# EAGLE library part RJSSE5380 (library 2000dB)
RJSSE5380: http://www.amphenolcanada.com/ProductSearch/drawings/AC/RJSS5080.pdf
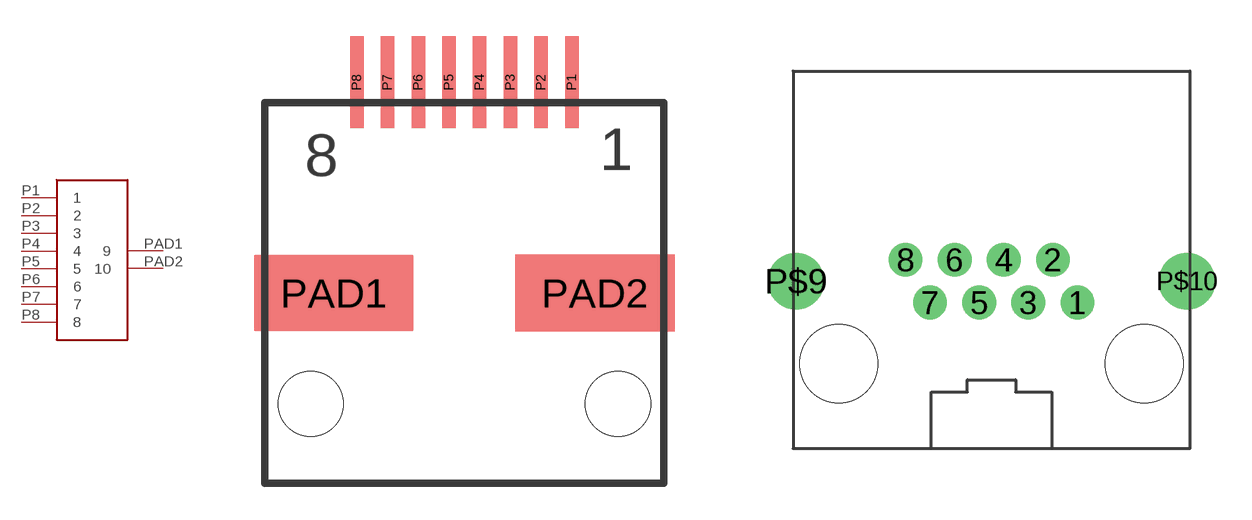
[diagram p1: symbol with the pads of RJSSE5380; footprints RJSSE5380, XRJM-S-01]

Designator prefix -

## RJSSE5380  [RJSSE5380]
P1  1
P2  2
P3  3
P4  4
P5  5
P6  6
P7  7
P8  8
PAD1  9
PAD2  10

## RJSSE5380XRJM-S-01  [XRJM-S-01]
1  1
2  2
3  3
4  4
5  5
6  6
7  7
8  8
P$9  9
P$10  10

## Footprint RJSSE5380 (pad centres in mm)
smd 0.559 x 3.81: P1 4.445,8.725; P2 3.175,8.725; P3 1.905,8.725; P4 0.635,8.725; P5 -0.635,8.725; P6 -1.905,8.725; P7 -3.175,8.725; P8 -4.445,8.725
smd 6.604 x 3.175: PAD1 -5.397,0; PAD2 5.397,0
hole 2.692 at 6.35,-4.585
hole 2.692 at -6.35,-4.585

## Footprint XRJM-S-01 (pad centres in mm)
drill 0.89 round: 1 3.57,-1.78; 2 2.55,0; 3 1.53,-1.78; 4 0.51,0; 5 -0.51,-1.78; 6 -1.53,0; 7 -2.55,-1.78; 8 -3.57,0
drill 1.57 round: P$9 -8.13,-0.89; P$10 8.13,-0.89
hole 3.25 at -6.35,-4.32
hole 3.25 at 6.35,-4.32